# Altium schematic symbol library SCH - ARM CORTEX - STM STM32F038C6Tx.SchLib: 1 symbol
Pins are listed as number, name and electrical type; pins without a type are passive.

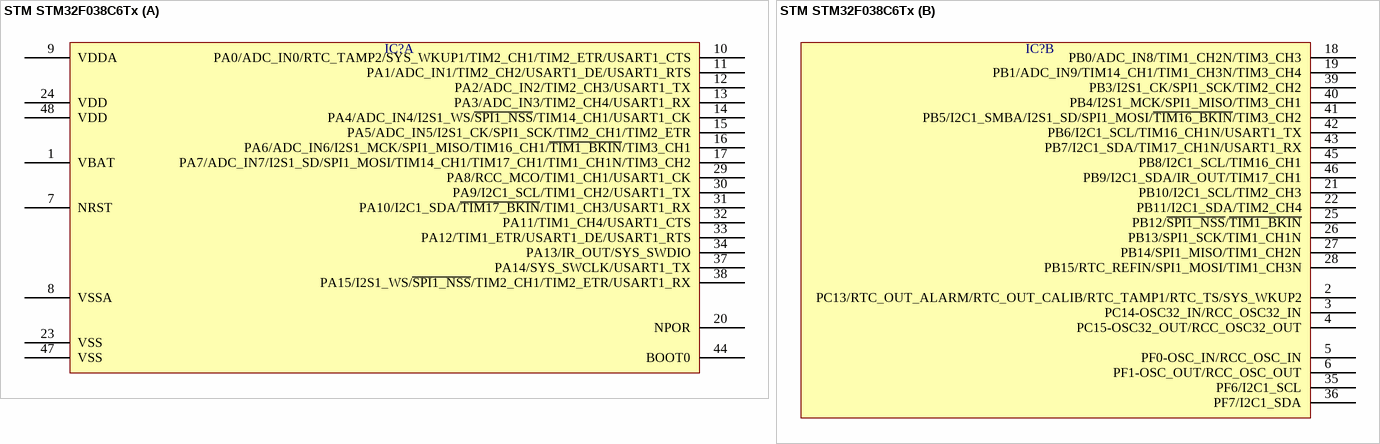
[diagram p0: symbol STM STM32F038C6Tx]

## STM STM32F038C6Tx
designator IC?  (value not drawn)
part A pins: 1 VBAT, 7 NRST, 8 VSSA, 9 VDDA, 10 PA0/ADC_IN0/RTC_TAMP2/SYS_WKUP1/TIM2_CH1/TIM2_ETR/USART1_CTS, 11 PA1/ADC_IN1/TIM2_CH2/USART1_DE/USART1_RTS, 12 PA2/ADC_IN2/TIM2_CH3/USART1_TX, 13 PA3/ADC_IN3/TIM2_CH4/USART1_RX, 14 PA4/ADC_IN4/I2S1_WS/~{SPI1_NSS}/TIM14_CH1/USART1_CK, 15 PA5/ADC_IN5/I2S1_CK/SPI1_SCK/TIM2_CH1/TIM2_ETR, 16 PA6/ADC_IN6/I2S1_MCK/SPI1_MISO/TIM16_CH1/~{TIM1_BKIN}/TIM3_CH1, 17 PA7/ADC_IN7/I2S1_SD/SPI1_MOSI/TIM14_CH1/TIM17_CH1/TIM1_CH1N/TIM3_CH2, 20 NPOR, 23 VSS, 24 VDD, 29 PA8/RCC_MCO/TIM1_CH1/USART1_CK, 30 PA9/I2C1_SCL/TIM1_CH2/USART1_TX, 31 PA10/I2C1_SDA/~{TIM17_BKIN}/TIM1_CH3/USART1_RX, 32 PA11/TIM1_CH4/USART1_CTS, 33 PA12/TIM1_ETR/USART1_DE/USART1_RTS, 34 PA13/IR_OUT/SYS_SWDIO, 37 PA14/SYS_SWCLK/USART1_TX, 38 PA15/I2S1_WS/~{SPI1_NSS}/TIM2_CH1/TIM2_ETR/USART1_RX, 44 BOOT0, 47 VSS, 48 VDD
part B pins: 2 PC13/RTC_OUT_ALARM/RTC_OUT_CALIB/RTC_TAMP1/RTC_TS/SYS_WKUP2, 3 PC14-OSC32_IN/RCC_OSC32_IN, 4 PC15-OSC32_OUT/RCC_OSC32_OUT, 5 PF0-OSC_IN/RCC_OSC_IN, 6 PF1-OSC_OUT/RCC_OSC_OUT, 18 PB0/ADC_IN8/TIM1_CH2N/TIM3_CH3, 19 PB1/ADC_IN9/TIM14_CH1/TIM1_CH3N/TIM3_CH4, 21 PB10/I2C1_SCL/TIM2_CH3, 22 PB11/I2C1_SDA/TIM2_CH4, 25 PB12/~{SPI1_NSS}/~{TIM1_BKIN}, 26 PB13/SPI1_SCK/TIM1_CH1N, 27 PB14/SPI1_MISO/TIM1_CH2N, 28 PB15/RTC_REFIN/SPI1_MOSI/TIM1_CH3N, 35 PF6/I2C1_SCL, 36 PF7/I2C1_SDA, 39 PB3/I2S1_CK/SPI1_SCK/TIM2_CH2, 40 PB4/I2S1_MCK/SPI1_MISO/TIM3_CH1, 41 PB5/I2C1_SMBA/I2S1_SD/SPI1_MOSI/~{TIM16_BKIN}/TIM3_CH2, 42 PB6/I2C1_SCL/TIM16_CH1N/USART1_TX, 43 PB7/I2C1_SDA/TIM17_CH1N/USART1_RX, 45 PB8/I2C1_SCL/TIM16_CH1, 46 PB9/I2C1_SDA/IR_OUT/TIM17_CH1